# EAGLE library part LM4F230H5QR (library CEDTv75)
The entry level Cortex-M4 chip sent early by Texas Instruments.
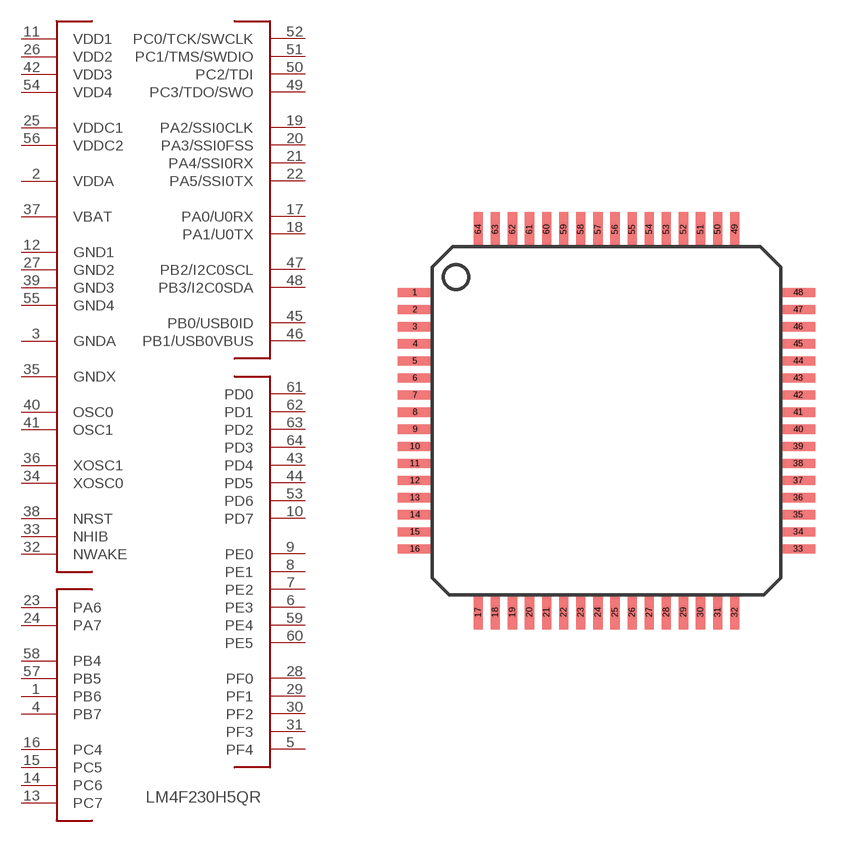
[diagram p62: symbol with the pads of LQFP64; footprint LQFP64]

Designator prefix -

## LM4F230H5QR  [LQFP64]
1  PB6  pas
2  VDDA  pas
3  GNDA  pas
4  PB7  pas
5  PF4  pas
6  PE3  pas
7  PE2  pas
8  PE1  pas
9  PE0  pas
10  PD7  pas
11  VDD1  pas
12  GND1  pas
13  PC7  pas
14  PC6  pas
15  PC5  pas
16  PC4  pas
17  PA0/U0RX  pas
18  PA1/U0TX  pas
19  PA2/SSI0CLK  pas
20  PA3/SSI0FSS  pas
21  PA4/SSI0RX  pas
22  PA5/SSI0TX  pas
23  PA6  pas
24  PA7  pas
25  VDDC1  pas
26  VDD2  pas
27  GND2  pas
28  PF0  pas
29  PF1  pas
30  PF2  pas
31  PF3  pas
32  NWAKE  pas
33  NHIB  pas
34  XOSC0  pas
35  GNDX  pas
36  XOSC1  pas
37  VBAT  pas
38  NRST  pas
39  GND3  pas
40  OSC0  pas
41  OSC1  pas
42  VDD3  pas
43  PD4  pas
44  PD5  pas
45  PB0/USB0ID  pas
46  PB1/USB0VBUS  pas
47  PB2/I2C0SCL  pas
48  PB3/I2C0SDA  pas
49  PC3/TDO/SWO  pas
50  PC2/TDI  pas
51  PC1/TMS/SWDIO  pas
52  PC0/TCK/SWCLK  pas
53  PD6  pas
54  VDD4  pas
55  GND4  pas
56  VDDC2  pas
57  PB5  pas
58  PB4  pas
59  PE4  pas
60  PE5  pas
61  PD0  pas
62  PD1  pas
63  PD2  pas
64  PD3  pas

## Footprint LQFP64 (pad centres in mm)
LQFP64 Richard Myrick T. Arellaga March2010
smd 1 x 0.27: 1 -5.6,3.75; 2 -5.6,3.25; 3 -5.6,2.75; 4 -5.6,2.25; 5 -5.6,1.75; 6 -5.6,1.25; 7 -5.6,0.75; 8 -5.6,0.25; 9 -5.6,-0.25; 10 -5.6,-0.75; 11 -5.6,-1.25; 12 -5.6,-1.75; 13 -5.6,-2.25; 14 -5.6,-2.75; 15 -5.6,-3.25; 16 -5.6,-3.75; 33 5.6,-3.75; 34 5.6,-3.25; 35 5.6,-2.75; 36 5.6,-2.25; 37 5.6,-1.75; 38 5.6,-1.25; 39 5.6,-0.75; 40 5.6,-0.25; 41 5.6,0.25; 42 5.6,0.75; 43 5.6,1.25; 44 5.6,1.75; 45 5.6,2.25; 46 5.6,2.75; 47 5.6,3.25; 48 5.6,3.75
smd 0.27 x 1: 17 -3.75,-5.6; 18 -3.25,-5.6; 19 -2.75,-5.6; 20 -2.25,-5.6; 21 -1.75,-5.6; 22 -1.25,-5.6; 23 -0.75,-5.6; 24 -0.25,-5.6; 25 0.25,-5.6; 26 0.75,-5.6; 27 1.25,-5.6; 28 1.75,-5.6; 29 2.25,-5.6; 30 2.75,-5.6; 31 3.25,-5.6; 32 3.75,-5.6; 49 3.75,5.6; 50 3.25,5.6; 51 2.75,5.6; 52 2.25,5.6; 53 1.75,5.6; 54 1.25,5.6; 55 0.75,5.6; 56 0.25,5.6; 57 -0.25,5.6; 58 -0.75,5.6; 59 -1.25,5.6; 60 -1.75,5.6; 61 -2.25,5.6; 62 -2.75,5.6; 63 -3.25,5.6; 64 -3.75,5.6